# Altium integrated library LP5912-3.3DRVT.IntLib: 1 symbol
Pins are listed as number, name and electrical type; pins without a type are passive.

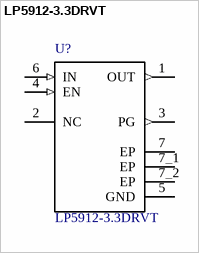
[diagram p0: symbol LP5912-3.3DRVT]

## LP5912-3.3DRVT
designator U?
/ Linear Voltage Regulator IC 1 Output 500mA 6-WSON _2x2_ /; MF: Texas Instruments; SnapEDA_Link: https://www.snapeda.com/parts/LP5912-3.3DRVT/Texas%20Instruments/view-part/510373/?ref=snap; MP: LP5912-3.3DRVT; Availability: Unavailable; Package: WDFN-6 Texas Instruments; Price: None; Value: *
footprint *SON65P200X200X80-7N_LP5912-3.3DRVT(Primary)
pins: 1 OUT (out), 2 NC, 3 PG (out), 4 EN (in), 5 GND (power), 6 IN (in), 7 EP, 7_1 EP, 7_2 EP